# Altium footprint library RCU.PcbLib: 91 footprints (part 1 of 6)
Each footprint in its own frame and in the unit in brackets; x right, y up, seen from the top. Pads: shape width x height; smd on the part's side, far side on the other; paste and mask are expansions set on the pad; w line width, h text height; cw(c..) or ccw(c..) is an arc to the next point about the centre after c.
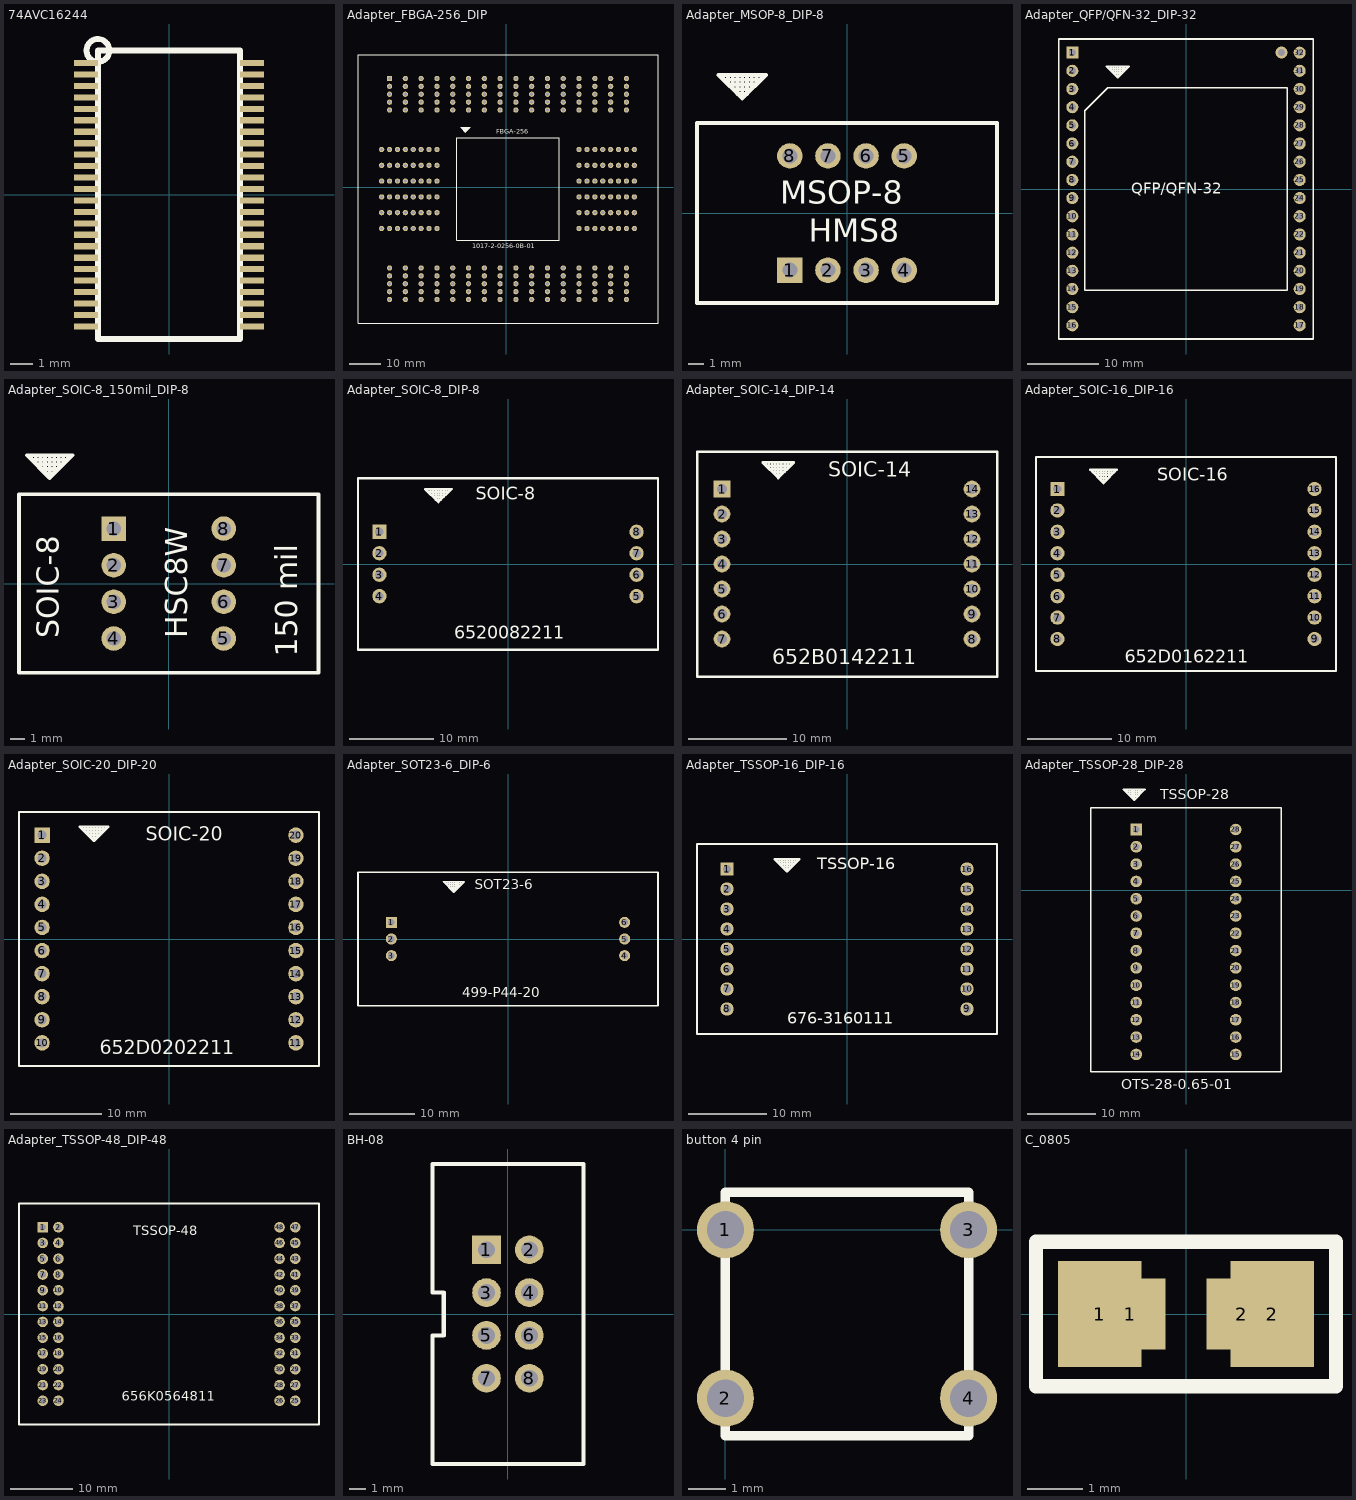
[diagram p0: the footprints below, top view; thin cyan lines are the x and y axes]

## 74AVC16244 [mm]
pads (48):
  rect 1.05x0.27 smd: 1(-3.625,5.75) 2(-3.625,5.25) 3(-3.625,4.75) 4(-3.625,4.25) 5(-3.625,3.75) 6(-3.625,3.25) 7(-3.625,2.75) 8(-3.625,2.25) 9(-3.625,1.75) 10(-3.625,1.25) 11(-3.625,0.75) 12(-3.625,0.25) 13(-3.625,-0.25) 14(-3.625,-0.75) 15(-3.625,-1.25) 16(-3.625,-1.75) 17(-3.625,-2.25) 18(-3.625,-2.75) 19(-3.625,-3.25) 20(-3.625,-3.75) 21(-3.625,-4.25) 22(-3.625,-4.75) 23(-3.625,-5.25) 24(-3.625,-5.75) 25(3.625,-5.75) 26(3.625,-5.25) 27(3.625,-4.75) 28(3.625,-4.25) 29(3.625,-3.75) 30(3.625,-3.25) 31(3.625,-2.75) 32(3.625,-2.25) 33(3.625,-1.75) 34(3.625,-1.25) 35(3.625,-0.75) 36(3.625,-0.25) 37(3.625,0.25) 38(3.625,0.75) 39(3.625,1.25) 40(3.625,1.75) 41(3.625,2.25) 42(3.625,2.75) 43(3.625,3.25) 44(3.625,3.75) 45(3.625,4.25) 46(3.625,4.75) 47(3.625,5.25) 48(3.625,5.75)
Top Overlay:
  circle w0.254: c-3.1,6.3 r0.5
  lines w0.254: -3.1,-6.3 -3.1,6.3 3.1,6.3 3.1,-6.3 -3.1,-6.3

## Adapter_FBGA-256_DIP [mm]
pads (256):
  rect 1.7x1.7 hole 1: A1(-37.583,35.043)
  round 1.7 hole 1: A2(-32.503,35.043) A3(-27.423,35.043) A4(-22.343,35.043) A5(-17.263,35.043) A6(-12.183,35.043) A7(-7.103,35.043) A8(-2.023,35.043) A9(3.057,35.043) A10(8.137,35.043) A11(13.217,35.043) A12(18.297,35.043) A13(23.377,35.043) A14(28.457,35.043) A15(33.537,35.043) A16(38.617,35.043) B1(-37.583,32.503) B2(-32.503,32.503) B3(-27.423,32.503) B4(-22.343,32.503) B5(-17.263,32.503) B6(-12.183,32.503) B7(-7.103,32.503) B8(-2.023,32.503) B9(3.057,32.503) B10(8.137,32.503) B11(13.217,32.503) B12(18.297,32.503) B13(23.377,32.503) B14(28.457,32.503) B15(33.537,32.503) B16(38.617,32.503) C1(-37.583,29.963) C2(-32.503,29.963) C3(-27.423,29.963) C4(-22.343,29.963) C5(-17.263,29.963) C6(-12.183,29.963) C7(-7.103,29.963) C8(-2.023,29.963) C9(3.057,29.963) C10(8.137,29.963) C11(13.217,29.963) C12(18.297,29.963) C13(23.377,29.963) C14(28.457,29.963) C15(33.537,29.963) C16(38.617,29.963) D1(-37.583,27.423) D2(-32.503,27.423) D3(-27.423,27.423) D4(-22.343,27.423) D5(-17.263,27.423) D6(-12.183,27.423) D7(-7.103,27.423) D8(-2.023,27.423) D9(3.057,27.423) D10(8.137,27.423) D11(13.217,27.423) D12(18.297,27.423) D13(23.377,27.423) D14(28.457,27.423) D15(33.537,27.423) D16(38.617,27.423) E1(-37.583,24.883) E2(-32.503,24.883) E3(-27.423,24.883) E4(-22.343,24.883) E5(-17.263,24.883) E6(-12.183,24.883) E7(-7.103,24.883) E8(-2.023,24.883) E9(3.057,24.883) E10(8.137,24.883) E11(13.217,24.883) E12(18.297,24.883) E13(23.377,24.883) E14(28.457,24.883) E15(33.537,24.883) E16(38.617,24.883) F1(-40.123,12.183) F2(-37.583,12.183) F3(-35.043,12.183) F4(-32.503,12.183) F5(-29.963,12.183) F6(-27.423,12.183) F7(-24.883,12.183) F8(-22.343,12.183) F9(23.377,12.183) F10(25.917,12.183) F11(28.457,12.183) F12(30.997,12.183) F13(33.537,12.183) F14(36.077,12.183) F15(38.617,12.183) F16(41.157,12.183) G1(-40.123,7.103) G2(-37.583,7.103) G3(-35.043,7.103) G4(-32.503,7.103) G5(-29.963,7.103) G6(-27.423,7.103) G7(-24.883,7.103) G8(-22.343,7.103) G9(23.377,7.103) G10(25.917,7.103) G11(28.457,7.103) G12(30.997,7.103) G13(33.537,7.103) G14(36.077,7.103) G15(38.617,7.103) G16(41.157,7.103) H1(-40.123,2.023) H2(-37.583,2.023) H3(-35.043,2.023) H4(-32.503,2.023) H5(-29.963,2.023) H6(-27.423,2.023) H7(-24.883,2.023) H8(-22.343,2.023) H9(23.377,2.023) H10(25.917,2.023) H11(28.457,2.023) H12(30.997,2.023) H13(33.537,2.023) H14(36.077,2.023) H15(38.617,2.023) H16(41.157,2.023) J1(-40.123,-3.057) J2(-37.583,-3.057) J3(-35.043,-3.057) J4(-32.503,-3.057) J5(-29.963,-3.057) J6(-27.423,-3.057) J7(-24.883,-3.057) J8(-22.343,-3.057) J9(23.377,-3.057) J10(25.917,-3.057) J11(28.457,-3.057) J12(30.997,-3.057) J13(33.537,-3.057) J14(36.077,-3.057) J15(38.617,-3.057) J16(41.157,-3.057) K1(-40.123,-8.137) K2(-37.583,-8.137) K3(-35.043,-8.137) K4(-32.503,-8.137) K5(-29.963,-8.137) K6(-27.423,-8.137) K7(-24.883,-8.137) K8(-22.343,-8.137) K9(23.377,-8.137) K10(25.917,-8.137) K11(28.457,-8.137) K12(30.997,-8.137) K13(33.537,-8.137) K14(36.077,-8.137) K15(38.617,-8.137) K16(41.157,-8.137) L1(-40.123,-13.217) L2(-37.583,-13.217) L3(-35.043,-13.217) L4(-32.503,-13.217) L5(-29.963,-13.217) L6(-27.423,-13.217) L7(-24.883,-13.217) L8(-22.343,-13.217) L9(23.377,-13.217) L10(25.917,-13.217) L11(28.457,-13.217) L12(30.997,-13.217) L13(33.537,-13.217) L14(36.077,-13.217) L15(38.617,-13.217) L16(41.157,-13.217) M1(-37.583,-25.917) M2(-32.503,-25.917) M3(-27.423,-25.917) M4(-22.343,-25.917) M5(-17.263,-25.917) M6(-12.183,-25.917) M7(-7.103,-25.917) M8(-2.023,-25.917) M9(3.057,-25.917) M10(8.137,-25.917) M11(13.217,-25.917) M12(18.297,-25.917) M13(23.377,-25.917) M14(28.457,-25.917) M15(33.537,-25.917) M16(38.617,-25.917) N1(-37.583,-28.457) N2(-32.503,-28.457) N3(-27.423,-28.457) N4(-22.343,-28.457) N5(-17.263,-28.457) N6(-12.183,-28.457) N7(-7.103,-28.457) N8(-2.023,-28.457) N9(3.057,-28.457) N10(8.137,-28.457) N11(13.217,-28.457) N12(18.297,-28.457) N13(23.377,-28.457) N14(28.457,-28.457) N15(33.537,-28.457) N16(38.617,-28.457) P1(-37.583,-30.997) P2(-32.503,-30.997) P3(-27.423,-30.997) P4(-22.343,-30.997) P5(-17.263,-30.997) P6(-12.183,-30.997) P7(-7.103,-30.997) P8(-2.023,-30.997) P9(3.057,-30.997) P10(8.137,-30.997) P11(13.217,-30.997) P12(18.297,-30.997) P13(23.377,-30.997) P14(28.457,-30.997) P15(33.537,-30.997) P16(38.617,-30.997) R1(-37.583,-33.537) R2(-32.503,-33.537) R3(-27.423,-33.537) R4(-22.343,-33.537) R5(-17.263,-33.537) R6(-12.183,-33.537) R7(-7.103,-33.537) R8(-2.023,-33.537) R9(3.057,-33.537) R10(8.137,-33.537) R11(13.217,-33.537) R12(18.297,-33.537) R13(23.377,-33.537) R14(28.457,-33.537) R15(33.537,-33.537) R16(38.617,-33.537) T1(-37.583,-36.077) T2(-32.503,-36.077) T3(-27.423,-36.077) T4(-22.343,-36.077) T5(-17.263,-36.077) T6(-12.183,-36.077) T7(-7.103,-36.077) T8(-2.023,-36.077) T9(3.057,-36.077) T10(8.137,-36.077) T11(13.217,-36.077) T12(18.297,-36.077) T13(23.377,-36.077) T14(28.457,-36.077) T15(33.537,-36.077) T16(38.617,-36.077)
Top Overlay:
  lines w0.254: -14.428,19.3 -14.428,18.982 -11.888,18.982 -11.888,19.3 ; -14.11,19.3 -14.11,18.665 -12.205,18.665 -12.205,19.3 ; -13.793,19.3 -13.793,18.347 -12.523,18.347 -12.523,19.3 ; -13.475,19.3 -13.475,18.03 -12.84,18.03 -12.84,19.3 ; -13.158,19.3 -13.158,17.712 ; -13.158,17.712 -11.57,19.3 -14.745,19.3 -13.158,17.712 ; -47.743,-43.697 48.777,-43.697 48.777,42.663 -47.743,42.663 -47.743,-43.697 ; -15.982,-17.017 17.017,-17.017 17.017,15.982 -15.982,15.982 -15.982,-17.017
  text "1017-2-0256-0B-01" at -10.913,-19.567 h1.5
  text "FBGA-256" at -3.293,17.263 h1.5

## Adapter_MSOP-8_DIP-8 [mm]
pads (8):
  rect 1.7x1.7 hole 1: 1(-3.81,-3.81)
  round 1.7 hole 1: 2(-1.27,-3.81) 3(1.27,-3.81) 4(3.81,-3.81) 5(3.81,3.81) 6(1.27,3.81) 7(-1.27,3.81) 8(-3.81,3.81)
Top Overlay:
  lines w0.254: -8.255,9.207 -8.255,8.89 -5.715,8.89 -5.715,9.207 ; -7.938,9.207 -7.938,8.572 -6.032,8.572 -6.032,9.207 ; -7.62,9.207 -7.62,8.255 -6.35,8.255 -6.35,9.207 ; -7.302,9.207 -7.302,7.938 -6.667,7.938 -6.667,9.207 ; -6.985,9.207 -6.985,7.62 ; -6.985,7.62 -5.397,9.207 -8.572,9.207 -6.985,7.62 ; -10,-6 -10,6 10,6 10,-6 -10,-6
  text "MSOP-8" at -4.445,0.635 h1.52
  text "HMS8" at -2.54,-1.905 h1.52

## Adapter_QFP/QFN-32_DIP-32 [mm] "AE-T-QFN32-02"
pads (32):
  rect 1.7x1.7 hole 1: 1(-15.875,19.05)
  round 1.7 hole 1: 2(-15.875,16.51) 3(-15.875,13.97) 4(-15.875,11.43) 5(-15.875,8.89) 6(-15.875,6.35) 7(-15.875,3.81) 8(-15.875,1.27) 9(-15.875,-1.27) 10(-15.875,-3.81) 11(-15.875,-6.35) 12(-15.875,-8.89) 13(-15.875,-11.43) 14(-15.875,-13.97) 15(-15.875,-16.51) 16(-15.875,-19.05) 17(15.875,-19.05) 18(15.875,-16.51) 19(15.875,-13.97) 20(15.875,-11.43) 21(15.875,-8.89) 22(15.875,-6.35) 23(15.875,-3.81) 24(15.875,-1.27) 25(15.875,1.27) 26(15.875,3.81) 27(15.875,6.35) 28(15.875,8.89) 29(15.875,11.43) 30(15.875,13.97) 31(15.875,16.51) 32(15.875,19.05)
via 13.335,19.05 diameter 1.7 hole 1
Top Overlay:
  lines w0.254: -10.795,17.145 -10.795,16.828 -8.255,16.828 -8.255,17.145 ; -10.477,17.145 -10.477,16.51 -8.572,16.51 -8.572,17.145 ; -10.16,17.145 -10.16,16.192 -8.89,16.192 -8.89,17.145 ; -9.842,17.145 -9.842,15.875 -9.207,15.875 -9.207,17.145 ; -9.525,17.145 -9.525,15.557 ; -9.525,15.557 -11.112,17.145 -7.938,17.145 -9.525,15.557 ; -17.78,-20.955 -17.78,20.955 17.78,20.955 17.78,-20.955 -17.78,-20.955 ; -14.15,-14.15 -14.15,10.95 -10.95,14.15 14.15,14.15 14.15,-14.15 -14.15,-14.15
  text "QFP/QFN-32" at -7.62,-0.635 h1.52

## Adapter_SOIC-8_150mil_DIP-8 [mm]
pads (8):
  rect 1.7x1.7 hole 1: 1(-3.81,3.81)
  round 1.7 hole 1: 2(-3.81,1.27) 3(-3.81,-1.27) 4(-3.81,-3.81) 5(3.81,-3.81) 6(3.81,-1.27) 7(3.81,1.27) 8(3.81,3.81)
Top Overlay:
  lines w0.254: -9.525,8.89 -9.525,8.572 -6.985,8.572 -6.985,8.89 ; -9.207,8.89 -9.207,8.255 -7.302,8.255 -7.302,8.89 ; -8.89,8.89 -8.89,7.938 -7.62,7.938 -7.62,8.89 ; -8.572,8.89 -8.572,7.62 -7.938,7.62 -7.938,8.89 ; -8.255,8.89 -8.255,7.302 ; -8.255,7.302 -9.842,8.89 -6.667,8.89 -8.255,7.302 ; -10.375,-6.185 -10.375,6.185 10.375,6.185 10.375,-6.185 -10.375,-6.185
  text "HSC8W" at 1.27,-3.81 h1.52
  text "SOIC-8" at -7.62,-3.81 h1.52
  text "150 mil" at 8.89,-5.08 h1.52

## Adapter_SOIC-8_DIP-8 [mm]
pads (8):
  rect 1.7x1.7 hole 1: 1(-15.24,3.81)
  round 1.7 hole 1: 2(-15.24,1.27) 3(-15.24,-1.27) 4(-15.24,-3.81) 5(15.24,-3.81) 6(15.24,-1.27) 7(15.24,1.27) 8(15.24,3.81)
Top Overlay:
  lines w0.254: -9.525,8.89 -9.525,8.572 -6.985,8.572 -6.985,8.89 ; -9.207,8.89 -9.207,8.255 -7.302,8.255 -7.302,8.89 ; -8.89,8.89 -8.89,7.938 -7.62,7.938 -7.62,8.89 ; -8.572,8.89 -8.572,7.62 -7.938,7.62 -7.938,8.89 ; -8.255,8.89 -8.255,7.302 ; -8.255,7.302 -9.842,8.89 -6.667,8.89 -8.255,7.302 ; -17.78,-10.16 17.78,-10.16 17.78,10.16 -17.78,10.16 -17.78,-10.16
  text "6520082211" at -6.35,-8.89 h1.52
  text "SOIC-8" at -3.81,7.62 h1.52

## Adapter_SOIC-14_DIP-14 [mm] "652B0142211"
pads (14):
  rect 1.7x1.7 hole 1: 1(-12.7,7.62)
  round 1.7 hole 1: 2(-12.7,5.08) 3(-12.7,2.54) 4(-12.7,0) 5(-12.7,-2.54) 6(-12.7,-5.08) 7(-12.7,-7.62) 8(12.7,-7.62) 9(12.7,-5.08) 10(12.7,-2.54) 11(12.7,0) 12(12.7,2.54) 13(12.7,5.08) 14(12.7,7.62)
Top Overlay:
  lines w0.254: -8.255,10.319 -8.255,10.001 -5.715,10.001 -5.715,10.319 ; -7.938,10.319 -7.938,9.684 -6.032,9.684 -6.032,10.319 ; -7.62,10.319 -7.62,9.366 -6.35,9.366 -6.35,10.319 ; -7.302,10.319 -7.302,9.049 -6.667,9.049 -6.667,10.319 ; -6.985,10.319 -6.985,8.731 ; -6.985,8.731 -8.572,10.319 -5.397,10.319 -6.985,8.731 ; -15.24,-11.43 -15.24,11.43 15.24,11.43 15.24,-11.43 -15.24,-11.43
  text "652B0142211" at -7.62,-10.16 h1.52
  text "SOIC-14" at -1.905,8.89 h1.52

## Adapter_SOIC-16_DIP-16 [mm]
pads (16):
  rect 1.7x1.7 hole 1: 1(-15.26,8.89)
  round 1.7 hole 1: 2(-15.26,6.35) 3(-15.26,3.81) 4(-15.26,1.27) 5(-15.26,-1.27) 6(-15.26,-3.81) 7(-15.26,-6.35) 8(-15.26,-8.89) 9(15.22,-8.89) 10(15.22,-6.35) 11(15.22,-3.81) 12(15.22,-1.27) 13(15.22,1.27) 14(15.22,3.81) 15(15.22,6.35) 16(15.22,8.89)
Top Overlay:
  lines w0.254: -11.07,11.165 -11.07,10.847 -8.53,10.847 -8.53,11.165 ; -10.753,11.165 -10.753,10.53 -8.848,10.53 -8.848,11.165 ; -10.435,11.165 -10.435,10.212 -9.165,10.212 -9.165,11.165 ; -10.118,11.165 -10.118,9.895 -9.483,9.895 -9.483,11.165 ; -9.8,11.165 -9.8,9.577 ; -9.8,9.577 -11.388,11.165 -8.213,11.165 -9.8,9.577 ; -17.8,-12.7 17.76,-12.7 17.76,12.7 -17.8,12.7 -17.8,-12.7
  text "652D0162211" at -7.26,-11.695 h1.52
  text "SOIC-16" at -3.45,9.895 h1.52

## Adapter_SOIC-20_DIP-20 [mm]
pads (20):
  rect 1.7x1.7 hole 1: 1(-13.97,11.43)
  round 1.7 hole 1: 2(-13.97,8.89) 3(-13.97,6.35) 4(-13.97,3.81) 5(-13.97,1.27) 6(-13.97,-1.27) 7(-13.97,-3.81) 8(-13.97,-6.35) 9(-13.97,-8.89) 10(-13.97,-11.43) 11(13.97,-11.43) 12(13.97,-8.89) 13(13.97,-6.35) 14(13.97,-3.81) 15(13.97,-1.27) 16(13.97,1.27) 17(13.97,3.81) 18(13.97,6.35) 19(13.97,8.89) 20(13.97,11.43)
Top Overlay:
  lines w0.254: -9.525,12.383 -9.525,12.065 -6.985,12.065 -6.985,12.383 ; -9.207,12.383 -9.207,11.747 -7.302,11.747 -7.302,12.383 ; -8.89,12.383 -8.89,11.43 -7.62,11.43 -7.62,12.383 ; -8.572,12.383 -8.572,11.112 -7.938,11.112 -7.938,12.383 ; -8.255,12.383 -8.255,10.795 ; -8.255,10.795 -6.667,12.383 -9.842,12.383 -8.255,10.795 ; -16.51,-13.97 16.51,-13.97 16.51,13.97 -16.51,13.97 -16.51,-13.97
  text "652D0202211" at -7.62,-12.7 h1.52
  text "SOIC-20" at -2.54,10.795 h1.52

## Adapter_SOT23-6_DIP-6 [mm]
pads (6):
  rect 1.7x1.7 hole 1: 1(-17.78,2.54)
  round 1.7 hole 1: 2(-17.78,0) 3(-17.78,-2.54) 4(17.78,-2.54) 5(17.78,0) 6(17.78,2.54)
Top Overlay:
  lines w0.254: -9.525,8.731 -9.525,8.414 -6.985,8.414 -6.985,8.731 ; -9.207,8.731 -9.207,8.096 -7.302,8.096 -7.302,8.731 ; -8.89,8.731 -8.89,7.779 -7.62,7.779 -7.62,8.731 ; -8.572,8.731 -8.572,7.461 -7.938,7.461 -7.938,8.731 ; -8.255,8.731 -8.255,7.144 ; -8.255,7.144 -9.842,8.731 -6.667,8.731 -8.255,7.144 ; -22.86,-10.16 22.86,-10.16 22.86,10.16 -22.86,10.16 -22.86,-10.16
  text "SOT23-6" at -5.08,7.62 h1.52
  text "499-P44-20" at -6.985,-8.89 h1.5

## Adapter_TSSOP-16_DIP-16 [mm]
pads (16):
  rect 1.7x1.7 hole 1: 1(-15.24,8.89)
  round 1.7 hole 1: 2(-15.24,6.35) 3(-15.24,3.81) 4(-15.24,1.27) 5(-15.24,-1.27) 6(-15.24,-3.81) 7(-15.24,-6.35) 8(-15.24,-8.89) 9(15.24,-8.89) 10(15.24,-6.35) 11(15.24,-3.81) 12(15.24,-1.27) 13(15.24,1.27) 14(15.24,3.81) 15(15.24,6.35) 16(15.24,8.89)
Top Overlay:
  lines w0.254: -8.89,10.16 -8.89,9.842 -6.35,9.842 -6.35,10.16 ; -8.572,10.16 -8.572,9.525 -6.667,9.525 -6.667,10.16 ; -8.255,10.16 -8.255,9.207 -6.985,9.207 -6.985,10.16 ; -7.938,10.16 -7.938,8.89 -7.302,8.89 -7.302,10.16 ; -7.62,10.16 -7.62,8.572 ; -7.62,8.572 -6.032,10.16 -9.207,10.16 -7.62,8.572 ; -19.05,-12.065 19.05,-12.065 19.05,12.065 -19.05,12.065 -19.05,-12.065
  text "TSSOP-16" at -3.81,8.89 h1.5
  text "676-3160111" at -7.62,-10.795 h1.5

## Adapter_TSSOP-28_DIP-28 [mm] "from aliexpress"
pads (28):
  rect 1.7x1.7 hole 1: 1(-7.302,8.89)
  round 1.7 hole 1: 2(-7.302,6.35) 3(-7.302,3.81) 4(-7.302,1.27) 5(-7.302,-1.27) 6(-7.302,-3.81) 7(-7.302,-6.35) 8(-7.302,-8.89) 9(-7.302,-11.43) 10(-7.302,-13.97) 11(-7.302,-16.51) 12(-7.302,-19.05) 13(-7.302,-21.59) 14(-7.302,-24.13) 15(7.302,-24.13) 16(7.302,-21.59) 17(7.302,-19.05) 18(7.302,-16.51) 19(7.302,-13.97) 20(7.302,-11.43) 21(7.302,-8.89) 22(7.302,-6.35) 23(7.302,-3.81) 24(7.302,-1.27) 25(7.302,1.27) 26(7.302,3.81) 27(7.302,6.35) 28(7.302,8.89)
Top Overlay:
  lines w0.254: -8.89,14.764 -8.89,14.446 -6.35,14.446 -6.35,14.764 ; -8.572,14.764 -8.572,14.129 -6.667,14.129 -6.667,14.764 ; -8.255,14.764 -8.255,13.811 -6.985,13.811 -6.985,14.764 ; -7.938,14.764 -7.938,13.494 -7.302,13.494 -7.302,14.764 ; -7.62,14.764 -7.62,13.176 ; -7.62,13.176 -9.207,14.764 -6.032,14.764 -7.62,13.176 ; -13.97,-26.67 -13.97,12.065 13.97,12.065 13.97,-26.67 -13.97,-26.67
  text "OTS-28-0.65-01" at -9.525,-29.21 h1.5
  text "TSSOP-28" at -3.81,13.335 h1.5

## Adapter_TSSOP-48_DIP-48 [mm]
pads (48):
  rect 1.7x1.7 hole 1: 1(-20.32,13.97)
  round 1.7 hole 1: 2(-17.78,13.97) 3(-20.32,11.43) 4(-17.78,11.43) 5(-20.32,8.89) 6(-17.78,8.89) 7(-20.32,6.35) 8(-17.78,6.35) 9(-20.32,3.81) 10(-17.78,3.81) 11(-20.32,1.27) 12(-17.78,1.27) 13(-20.32,-1.27) 14(-17.78,-1.27) 15(-20.32,-3.81) 16(-17.78,-3.81) 17(-20.32,-6.35) 18(-17.78,-6.35) 19(-20.32,-8.89) 20(-17.78,-8.89) 21(-20.32,-11.43) 22(-17.78,-11.43) 23(-20.32,-13.97) 24(-17.78,-13.97) 25(20.32,-13.97) 26(17.78,-13.97) 27(20.32,-11.43) 28(17.78,-11.43) 29(20.32,-8.89) 30(17.78,-8.89) 31(20.32,-6.35) 32(17.78,-6.35) 33(20.32,-3.81) 34(17.78,-3.81) 35(20.32,-1.27) 36(17.78,-1.27) 37(20.32,1.27) 38(17.78,1.27) 39(20.32,3.81) 40(17.78,3.81) 41(20.32,6.35) 42(17.78,6.35) 43(20.32,8.89) 44(17.78,8.89) 45(20.32,11.43) 46(17.78,11.43) 47(20.32,13.97) 48(17.78,13.97)
Top Overlay:
  lines w0.254: -24.13,-17.78 24.13,-17.78 24.13,17.78 -24.13,17.78 -24.13,-17.78
  text "TSSOP-48" at -5.715,12.7 h1.5
  text "656K0564811" at -7.62,-13.97 h1.5

## BH-08 [mm]
pads (8):
  rect 1.7x1.7 hole 1: 1(-1.27,3.81)
  round 1.7 hole 1: 2(1.27,3.81) 3(-1.27,1.27) 4(1.27,1.27) 5(-1.27,-1.27) 6(1.27,-1.27) 7(-1.27,-3.81) 8(1.27,-3.81)
Top Overlay:
  lines w0.254: -4.47,-8.89 4.48,-8.89 4.48,8.89 -4.47,8.89 -4.47,1.27 -3.81,1.27 -3.81,-1.27 -4.47,-1.27 -4.47,-8.89

## button 4 pin [mm]
pads (4):
  round 1.524 hole 1: 1(0,0) 2(0,-4.5) 3(6.5,0) 4(6.5,-4.5)
Top Overlay:
  lines w0.254: 0,-5.5 0,1 6.5,1 6.5,-5.5 0,-5.5

## C_0805 [mm]
pads (4):
  rect 1.5x1.9 smd: 1(-1.55,0) 2(1.55,0)
  rect 1.27x1.27 smd: 1(-1,0) 2(1,0)
Top Overlay:
  lines w0.254: -2.7,-1.3 -2.7,1.3 2.7,1.3 2.7,-1.3 -2.7,-1.3